# Altium schematic symbol library stm32l432kc_micro.SchLib: 2 symbols
Pins are listed as number, name and electrical type; pins without a type are passive.

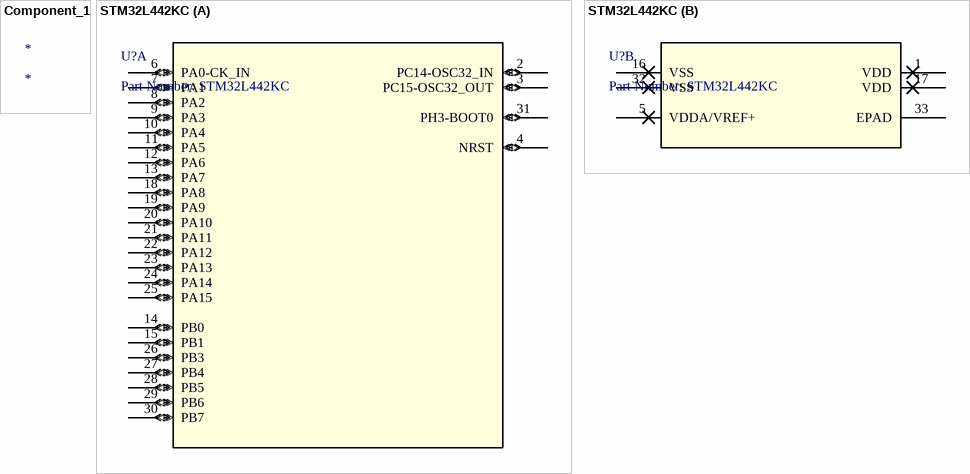
[diagram p0: symbols Component_1 to STM32L442KC]

## Component_1
designator *

## STM32L442KC
designator U?, comment Part Number: STM32L442KC
No Description Available; Vendor: ST Microelectronics; Copyright: Copyright (C) 2016 Accelerated Designs. All rights reserved; Manufacturer_Part_Number: STM32L442KC; RefDes: RefDes; Type: DEV; Value: Value
footprint UFQFPN32-5x5mm
part A pins: 2 PC14-OSC32_IN (io), 3 PC15-OSC32_OUT (io), 4 NRST (io), 6 PA0-CK_IN (io), 7 PA1 (io), 8 PA2 (io), 9 PA3 (io), 10 PA4 (io), 11 PA5 (io), 12 PA6 (io), 13 PA7 (io), 14 PB0 (io), 15 PB1 (io), 18 PA8 (io), 19 PA9 (io), 20 PA10 (io), 21 PA11 (io), 22 PA12 (io), 23 PA13 (io), 24 PA14 (io), 25 PA15 (io), 26 PB3 (io), 27 PB4 (io), 28 PB5 (io), 29 PB6 (io), 30 PB7 (io), 31 PH3-BOOT0 (io)
part B pins: 1 VDD (power), 5 VDDA/VREF+ (power), 16 VSS (power), 17 VDD (power), 32 VSS (power), 33 EPAD